# Altium schematic symbol library Common.SchLib: 13 symbols
Pins are listed as number, name and electrical type; pins without a type are passive.

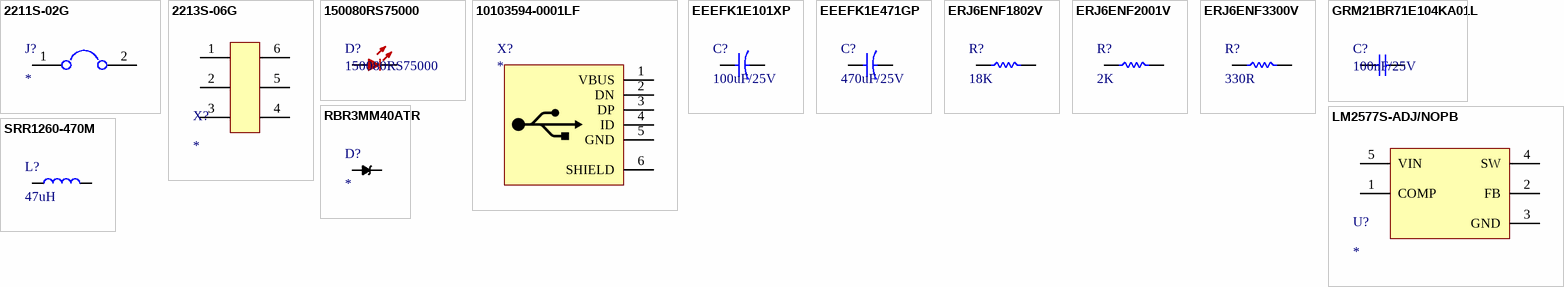
[diagram p0: symbols 2211S-02G to SRR1260-470M]

## 2211S-02G
designator J?
HEADER 2-PIN SINGLE ROW 2.54mm; Manufacturer: Multicomp; Manufacturer Part Number: 2211S-02G; Gender: Male; Number of Contacts: 2; Insulation Resistance: 1GR; Supplier 1: Farnell; Stock 1: 321402; Pricing 1: 50=0.0128, 500=0.0094, 1500=0.0081, 2500=0.0066, 5000=0.0064, 10000=0.0061, 30000=0.0059, 50000=0.0056 (EUR); Mount: Through Hole; Weight: 0.11lb; Contact Plating: Gold; Contact Material: Copper Alloy; Termination: Through Hole; Number of Rows: 1; Length: 0.2inch; Height: 0.47inch; Width: 0.12inch; REACH SVHC: No SVHC; Flammability Rating: UL94 V-0; ComponentLink1URL: http://www.farnell.com/datasheets/1518407.pdf?src-supplier=Element14; ComponentLink1Description: http://www.farnell.com/datasheets/1518407.pdf?src-supplier=Element14
footprint HEADER 2WAY with JUMPER 2.54,,
pins: 1, 2

## 2213S-06G
designator X?
HEADER 6-PIN DUAL ROW 2.54 mm; Manufacturer: Multicomp; Manufacturer Part Number: 2213S-06G; Number of Contacts: 6; Gender: Male; Insulation Resistance: 1GR; Supplier 1: Farnell; Stock 1: 152515; Pricing 1: 50=0.0349, 500=0.0257, 1500=0.0222, 2500=0.0181, 5000=0.0175, 10000=0.0168, 30000=0.0162, 50000=0.0155 (EUR); Mount: Through Hole; Weight: 0.11lb; Contact Plating: Gold; Contact Material: Copper Alloy; Number of Rows: 2; Termination: Through Hole; Length: 0.31inch; Height: 0.47inch; Width: 0.2inch; Flammability Rating: UL94 V-0; REACH SVHC: No SVHC; ComponentLink1URL: http://www.farnell.com/datasheets/1697530.pdf?src-supplier=Element14; ComponentLink1Description: http://www.farnell.com/datasheets/1697530.pdf?src-supplier=Element14; ComponentLink2URL: http://www.farnell.com/datasheets/1697530.pdf?src-supplier=Newark; ComponentLink2Description: http://www.farnell.com/datasheets/1697530.pdf?src-supplier=Newark
footprint HEADER 6WAY-2ROW
pins: 1, 2, 3, 4, 5, 6

## 150080RS75000
designator D?
WURTH ELEKTRONIK - 150080RS75000 - LED, 0805, ROJO, 150MCD, 625NM; Longitud de Onda Típ.: 625; Tensión Directa: 2; Corriente Directa If: 30; Intensidad Luminosa: 150; LED, Montaje: Montaje Superficial; Lente, Perfil: Rectangular; Ángulo de Visión: 140°; Encapsulado: Individual; Nivel de Sensibilidad a la Humedad (MSL): -<!--FANDB--><div class="features-and-benefits-container"><div class="features-and-benefits-description"><span class="features-benefits-value">The 150080RS75000 is a blue SMD chip LED Lamp with mono-colour water clear lens. This LED is suitable for backlight and miniaturized colour effects.</span></div><div class="features-and-benefits-list"><ul class="features-and-benefits-list-list"><li class="features-and-benefits-list-item">Low Energy Consumption</li><li class="features-and-benefits-list-item">High Reliability</li><li class="features-and-benefits-list-item">Low Current Requirement</li><li class="features-and-benefits-list-item">Fast Switching</li><li class="features-and-benefits-list-item">No UV/IR Radiation</li><li class="features-and-benefits-list-item">Smallest SMD Package with Exceptional Brightness</li><li class="features-and-benefits-list-item">Top View</li><li class="features-and-benefits-list-item">Wide Viewing Angle</li><li class="features-and-benefits-list-item">PBC High-usage</li><li class="features-and-benefits-list-item">Better Solderability</li><li class="features-and-benefits-list-item">Heat Dissipation</li></ul></div><div class="features-and-benefits-warnings"><span class="features-benefits-value">Washing varnish agent that is used during the production to clean the customer application might damage or change the characteristics of the LED body, pins or termination.</span></div><div class="features-and-benefits-applications"><ul class="features-and-benefits-value"><li class="features-and-benefits-list-item">Electrónica de Consumo</li><li class="features-and-benefits-list-item">Automoción</li><li class="features-and-benefits-list-item">Dispositivos Portátiles</li><li class="features-and-benefits-list-item">Industrial</li><li class="features-and-benefits-list-item">Iluminación LED</li></ul></div></div>; Supplier 1: Farnell; Manufacturer: WURTH ELEKTRONIK; Manufacturer Part Number: 150080RS75000; RoHS: YES; Stock 1: 1164; Pricing 1: 1=0,27, 50=0,238, 100=0,2, 500=0,182, 2000=0,162, 4000=0,146, 20000=0,129, 40000=0,116 (EUR); LED, Color: Rojo; Tamaño de Bulbo: -; ComponentLink1URL: http://www.farnell.com/datasheets/1911350.pdf; ComponentLink1Description: http://www.farnell.com/datasheets/1911350.pdf; Supplier Part Number 1: 2322077
footprint 150080RS75000
pins: 1 K, 2 A

## 10103594-0001LF
designator X?
MICRO USB 2.0 TYPE-B SMT; Manufacturer: AMPHENOL ICC (FCI); Manufacturer Part Number: 10103594-0001LF; USB Connector Type: Micro USB Type B; USB Standard: USB 2.0; Gender: Receptacle; No. of Positions: 5; Connector Mounting: Surface Mount; Supplier 1: Farnell; RoHS: YES; Stock 1: 75000; Pricing 1: 30000=0.332 (GBP); Orientation: Right Angle; Contact Material: Copper Alloy; ComponentLink1URL: http://www.farnell.com/datasheets/2366787.pdf; ComponentLink1Description: http://www.farnell.com/datasheets/2366787.pdf; ComponentLink2URL: http://www.farnell.com/cad/1913060.pdf; ComponentLink2Description: http://www.farnell.com/cad/1913060.pdf; ComponentLink3URL: http://www.farnell.com/datasheets/2562202.pdf; ComponentLink3Description: http://www.farnell.com/datasheets/2562202.pdf; ComponentLink4URL: http://www.farnell.com/datasheets/2366786.pdf; ComponentLink4Description: http://www.farnell.com/datasheets/2366786.pdf
footprint FCI 10103594-0001LF (MicroUSB Type B Connector)
pins: 1 VBUS, 2 DN, 3 DP, 4 ID, 5 GND, 6 SHIELD

## EEEFK1E101XP
designator C?, comment 100uF/25V
CAPACITOR ALU 100UF 25V 20%; Manufacturer: Panasonic; Manufacturer Part Number: EEE-FK1E101XP; Ripple Current: 280mA; Life (Hours): 2000Hour; ESR (Equivalent Series Resistance): 340mR; Polarity: Polar; Leakage Current: 25uA; Lead Diameter: 0.65mm; Supplier 1: Farnell; Stock 1: 0; Mount: Surface Mount,PCB; Case/Package: Radial; Number of Pins: 8; Contact Plating: Tin; Min Operating Temperature: -55°C; Max Operating Temperature: 105°C; Tolerance: 20%; Capacitance: 100uF; Voltage Rating (DC): 25V; Packaging: Tape and Reel; Voltage Rating: 25V; Ripple Current (AC): 280mA; Impedance: 340mR; Package Quantity: 1; Termination: SMD/SMT; Voltage: 25V; Diameter: 6.3mm; Length: 7.7mm; Height: 7.7mm; Lead Pitch: 1.8mm; Height - Seated (Max): 0.315inch; Width: 7.8mm; Radiation Hardening: No; REACH SVHC: No SVHC; Lead Free: Lead Free; ComponentLink1URL: http://uk.rs-online.com/webdocs/139e/0900766b8139e367.pdf?src-supplier=RSComponents; ComponentLink1Description: http://uk.rs-online.com/webdocs/139e/0900766b8139e367.pdf?src-supplier=RSComponents; ComponentLink2URL: http://industrial.panasonic.com/www-data/pdf/ABA0000/ABA0000CE120.pdf?src-supplier=Future+Electronics; ComponentLink2Description: http://industrial.panasonic.com/www-data/pdf/ABA0000/ABA0000CE120.pdf?src-supplier=Future+Electronics; ComponentLink3URL: http://www.farnell.com/datasheets/1676921.pdf?src-supplier=Element14; ComponentLink3Description: http://www.farnell.com/datasheets/1676921.pdf?src-supplier=Element14; ComponentLink4URL: http://www.farnell.com/datasheets/731857.pdf?src-supplier=Element14; ComponentLink4Description: http://www.farnell.com/datasheets/731857.pdf?src-supplier=Element14; ComponentLink5URL: http://www.farnell.com/datasheets/58258.pdf?src-supplier=Element14; ComponentLink5Description: http://www.farnell.com/datasheets/58258.pdf?src-supplier=Element14; ComponentLink6URL: http://www.farnell.com/datasheets/2002520.pdf?src-supplier=Farnell; ComponentLink6Description: http://www.farnell.com/datasheets/2002520.pdf?src-supplier=Farnell; ComponentLink7URL: https://industrial.panasonic.com/cdbs/www-data/pdf/RDE0000/DME0000COL90.pdf?src-supplier=Mouser; ComponentLink7Description: https://industrial.panasonic.com/cdbs/www-data/pdf/RDE0000/DME0000COL90.pdf?src-supplier=Mouser; ComponentLink8URL: http://industrial.panasonic.com/www-data/pdf/ABA0000/ABA0000CE120.pdf?src-supplier=Avnet; ComponentLink8Description: http://industrial.panasonic.com/www-data/pdf/ABA0000/ABA0000CE120.pdf?src-supplier=Avnet; ComponentLink9URL: https://industrial.panasonic.com/cdbs/www-data/pdf/RDE0000/DME0000COL90.pdf?src-supplier=Allied+Electronics; ComponentLink9Description: https://industrial.panasonic.com/cdbs/www-data/pdf/RDE0000/DME0000COL90.pdf?src-supplier=Allied+Electronics; Value: 100uF/25V
footprint CAP ALU PANASONIC D8 (Aluminum Electrolytic Capacitor, Body 6.60x6.60x7.70mm, IPC Low Density)
pins: 1, 2

## EEEFK1E471GP
designator C?, comment 470uF/25V
CAPACITOR ALU 470UF 25V 20%; Manufacturer: Panasonic; Manufacturer Part Number: EEE-FK1E471GP; Ripple Current: 850mA; Impedance: 80mR; Polarity: Polar; Life (Hours): 5000Hour; Leakage Current: 3uA; Dissipation Factor: 0.14%; Supplier 1: Farnell; Stock 1: 0; Mount: Surface Mount,PCB; Case/Package: Radial; Contact Plating: Tin; Min Operating Temperature: -55°C; Max Operating Temperature: 105°C; Capacitance: 470uF; Tolerance: 20%; Voltage Rating: 25V; Packaging: Tape and Reel; Package Quantity: 500; Ripple Current (AC): 850mA; Voltage Rating (DC): 25V; ESR (Equivalent Series Resistance): 80mR; Termination: SMD/SMT; Voltage: 25V; Diameter: 10mm; Length: 10.2mm; Height: 10.2mm; Height - Seated (Max): 0.413inch; Width: 12mm; Radiation Hardening: No; REACH SVHC: No SVHC; Lead Free: Lead Free; ComponentLink1URL: http://uk.rs-online.com/webdocs/0e4e/0900766b80e4e8b0.pdf?src-supplier=RSComponents; ComponentLink1Description: http://uk.rs-online.com/webdocs/0e4e/0900766b80e4e8b0.pdf?src-supplier=RSComponents; ComponentLink2URL: http://industrial.panasonic.com/www-data/pdf/ABA0000/ABA0000CE120.pdf?src-supplier=Avnet; ComponentLink2Description: http://industrial.panasonic.com/www-data/pdf/ABA0000/ABA0000CE120.pdf?src-supplier=Avnet; ComponentLink3URL: http://www.farnell.com/datasheets/2002520.pdf?src-supplier=Element14; ComponentLink3Description: http://www.farnell.com/datasheets/2002520.pdf?src-supplier=Element14; ComponentLink4URL: https://www.alliedelec.com/m/d/e9dd47fa10a053d1f2828ce8bc944f54.pdf?src-supplier=Allied+Electronics; ComponentLink4Description: https://www.alliedelec.com/m/d/e9dd47fa10a053d1f2828ce8bc944f54.pdf?src-supplier=Allied+Electronics; ComponentLink5URL: http://www.farnell.com/datasheets/2002520.pdf?src-supplier=Farnell; ComponentLink5Description: http://www.farnell.com/datasheets/2002520.pdf?src-supplier=Farnell; ComponentLink6URL: http://industrial.panasonic.com/www-data/pdf/ABA0000/ABA0000CE120.pdf?src-supplier=Avnet+Europe; ComponentLink6Description: http://industrial.panasonic.com/www-data/pdf/ABA0000/ABA0000CE120.pdf?src-supplier=Avnet+Europe; ComponentLink7URL: https://www.verical.com/server-webapp/html/getDatasheet?partID=191535&src-supplier=Verical; ComponentLink7Description: https://www.verical.com/server-webapp/html/getDatasheet?partID=191535&src-supplier=Verical; ComponentLink8URL: http://industrial.panasonic.com/www-data/pdf/ABA0000/ABA0000CE120.pdf?src-supplier=Future+Electronics; ComponentLink8Description: http://industrial.panasonic.com/www-data/pdf/ABA0000/ABA0000CE120.pdf?src-supplier=Future+Electronics; ComponentLink9URL: http://www.mouser.com/ds/2/315/ABA0000CE120-68386.pdf?src-supplier=Mouser; ComponentLink9Description: http://www.mouser.com/ds/2/315/ABA0000CE120-68386.pdf?src-supplier=Mouser; Value: 470uF/25V
footprint CAP ALU PANASONIC G (Aluminum Electrolytic Capacitor, Body 10.30x10.30x10.50mm, IPC Low Density)
pins: 1, 2

## ERJ6ENF1802V
designator R?, comment 18K
RESISTOR 0805 18K 1%; Manufacturer: Panasonic; Manufacturer Part Number: ERJ-6ENF1802V; Temperature Coefficient: 100ppm/°C; Power Rating: 125mW; Voltage Rating: 150V; Supplier 1: Farnell; Stock 1: 0; Mount: Surface Mount; Case/Package: 0805; Number of Pins: 2; Weight: 0.000194oz; Contact Plating: Tin; Case Code (Metric): 2012; Case Code (Imperial): 0805; Min Operating Temperature: -55°C; Max Operating Temperature: 155°C; Resistance: 18K; Tolerance: 1%; Composition: Thick Film; Packaging: Tape and Reel; Package Quantity: 1; Number of Terminations: 2; Termination: SMD/SMT; Military Standard: Not; Max Power Dissipation: 125mW; Voltage Rating (DC): 150V; Features: Automotive AEC-Q200; Length: 2mm; Height: 0.6mm; Width: 0.049inch; Depth: 1.25mm; Radiation Hardening: No; REACH SVHC: No SVHC; ComponentLink1URL: http://www.farnell.com/datasheets/1911175.pdf?src-supplier=Farnell; ComponentLink1Description: http://www.farnell.com/datasheets/1911175.pdf?src-supplier=Farnell; ComponentLink2URL: https://www.alliedelec.com/m/d/623f45ff1957d936ff56d46fd1c28cac.pdf?src-supplier=Allied+Electronics; ComponentLink2Description: https://www.alliedelec.com/m/d/623f45ff1957d936ff56d46fd1c28cac.pdf?src-supplier=Allied+Electronics; ComponentLink3URL: http://www.farnell.com/datasheets/426256.pdf?src-supplier=Element14; ComponentLink3Description: http://www.farnell.com/datasheets/426256.pdf?src-supplier=Element14; ComponentLink4URL: http://industrial.panasonic.com/www-data/pdf/AOA0000/AOA0000CE2.pdf?src-supplier=Avnet; ComponentLink4Description: http://industrial.panasonic.com/www-data/pdf/AOA0000/AOA0000CE2.pdf?src-supplier=Avnet; ComponentLink5URL: http://industrial.panasonic.com/www-data/pdf/AOA0000/AOA0000CE2.pdf?src-supplier=Avnet+Asia; ComponentLink5Description: http://industrial.panasonic.com/www-data/pdf/AOA0000/AOA0000CE2.pdf?src-supplier=Avnet+Asia; ComponentLink6URL: http://www.farnell.com/datasheets/1678782.pdf?src-supplier=Element14; ComponentLink6Description: http://www.farnell.com/datasheets/1678782.pdf?src-supplier=Element14; ComponentLink7URL: http://www.mouser.com/ds/2/315/AOA0000C86-911473.pdf?src-supplier=Mouser; ComponentLink7Description: http://www.mouser.com/ds/2/315/AOA0000C86-911473.pdf?src-supplier=Mouser
footprint RES 0805/2012 (Chip Resistor, 2-Leads, Body 2.00x1.25mm, IPC Medium Density)
pins: 1, 2

## ERJ6ENF2001V
designator R?, comment 2K
RESISTOR 0805 2K 1%; Manufacturer: Panasonic; Manufacturer Part Number: ERJ-6ENF2001V; Temperature Coefficient: 100ppm/°C; Power Rating: 125mW; Voltage Rating: 150V; Supplier 1: Farnell; Stock 1: 0; Mount: Surface Mount; Case/Package: 0805; Weight: 0.000194oz; Contact Plating: Tin; Case Code (Metric): 2012; Case Code (Imperial): 0805; Min Operating Temperature: -55°C; Max Operating Temperature: 155°C; Resistance: 2K; Tolerance: 1%; Composition: Thick Film; Packaging: Tape and Reel; Package Quantity: 1; Number of Terminations: 2; Termination: SMD/SMT; Military Standard: Not; Max Power Dissipation: 125mW; Voltage Rating (DC): 150V; Features: Automotive AEC-Q200; Length: 2mm; Height: 0.6mm; Width: 0.049inch; Depth: 1.25mm; Radiation Hardening: No; REACH SVHC: No SVHC; Lead Free: Lead Free; ComponentLink1URL: http://industrial.panasonic.com/www-data/pdf/AOA0000/AOA0000CE2.pdf?src-supplier=Avnet; ComponentLink1Description: http://industrial.panasonic.com/www-data/pdf/AOA0000/AOA0000CE2.pdf?src-supplier=Avnet; ComponentLink2URL: http://www.farnell.com/datasheets/1678782.pdf?src-supplier=Element14; ComponentLink2Description: http://www.farnell.com/datasheets/1678782.pdf?src-supplier=Element14; ComponentLink3URL: http://www.mouser.com/ds/2/315/AOA0000C86-911473.pdf?src-supplier=Mouser; ComponentLink3Description: http://www.mouser.com/ds/2/315/AOA0000C86-911473.pdf?src-supplier=Mouser; ComponentLink4URL: http://www.jameco.com/Jameco/Products/ProdDS/1989121.pdf?src-supplier=Jameco; ComponentLink4Description: http://www.jameco.com/Jameco/Products/ProdDS/1989121.pdf?src-supplier=Jameco; ComponentLink5URL: https://www.alliedelec.com/m/d/623f45ff1957d936ff56d46fd1c28cac.pdf?src-supplier=Allied+Electronics; ComponentLink5Description: https://www.alliedelec.com/m/d/623f45ff1957d936ff56d46fd1c28cac.pdf?src-supplier=Allied+Electronics; ComponentLink6URL: http://industrial.panasonic.com/www-data/pdf/AOA0000/AOA0000CE2.pdf?src-supplier=Avnet+Asia; ComponentLink6Description: http://industrial.panasonic.com/www-data/pdf/AOA0000/AOA0000CE2.pdf?src-supplier=Avnet+Asia; ComponentLink7URL: http://www.farnell.com/datasheets/426256.pdf?src-supplier=Element14; ComponentLink7Description: http://www.farnell.com/datasheets/426256.pdf?src-supplier=Element14; ComponentLink8URL: http://industrial.panasonic.com/www-data/pdf/AOA0000/AOA0000CE2.pdf?src-supplier=Avnet+Europe; ComponentLink8Description: http://industrial.panasonic.com/www-data/pdf/AOA0000/AOA0000CE2.pdf?src-supplier=Avnet+Europe; ComponentLink9URL: http://www.farnell.com/datasheets/1911175.pdf?src-supplier=Farnell; ComponentLink9Description: http://www.farnell.com/datasheets/1911175.pdf?src-supplier=Farnell
footprint RES 0805/2012 (Chip Resistor, 2-Leads, Body 2.00x1.25mm, IPC Medium Density)
pins: 1, 2

## ERJ6ENF3300V
designator R?, comment 330R
RESISTOR 0805 330R 1%; Manufacturer: Panasonic; Manufacturer Part Number: ERJ-6ENF3300V; Temperature Coefficient: 100ppm/°C; Voltage Rating: 150V; Power Rating: 125mW; Supplier 1: Farnell; Stock 1: 0; Mount: Surface Mount; Case/Package: 0805; Number of Pins: 2; Contact Plating: Tin; Case Code (Imperial): 0805; Case Code (Metric): 2012; Min Operating Temperature: -55°C; Max Operating Temperature: 155°C; Resistance: 330R; Tolerance: 1%; Composition: Thick Film; Packaging: Tape and Reel; Package Quantity: 1; Number of Terminations: 2; Military Standard: Not; Termination: SMD/SMT; Max Power Dissipation: 125mW; Features: Automotive AEC-Q200; Length: 2mm; Height: 0.6mm; Width: 1.2mm; Depth: 1.25mm; Radiation Hardening: No; REACH SVHC: No SVHC; ComponentLink1URL: http://www.mouser.com/ds/2/315/AOA0000C283-1093288.pdf?src-supplier=Mouser; ComponentLink1Description: http://www.mouser.com/ds/2/315/AOA0000C283-1093288.pdf?src-supplier=Mouser; ComponentLink2URL: http://industrial.panasonic.com/www-data/pdf/AOA0000/AOA0000CE2.pdf?src-supplier=Avnet+Europe; ComponentLink2Description: http://industrial.panasonic.com/www-data/pdf/AOA0000/AOA0000CE2.pdf?src-supplier=Avnet+Europe; ComponentLink3URL: http://www.farnell.com/datasheets/1678782.pdf?src-supplier=Element14; ComponentLink3Description: http://www.farnell.com/datasheets/1678782.pdf?src-supplier=Element14; ComponentLink4URL: http://www.alliedelec.com/m/d/623f45ff1957d936ff56d46fd1c28cac.pdf?src-supplier=Allied+Electronics; ComponentLink4Description: http://www.alliedelec.com/m/d/623f45ff1957d936ff56d46fd1c28cac.pdf?src-supplier=Allied+Electronics
footprint RES 0805/2012 (Chip Resistor, 2-Leads, Body 2.00x1.25mm, IPC Medium Density)
pins: 1, 2

## GRM21BR71E104KA01L
designator C?, comment 100nF/25V
CAPACITOR 0805 100nF 25V X7R 10%; Manufacturer: Murata; Manufacturer Part Number: GRM21BR71E104KA01L; Supplier 1: Farnell; Stock 1: 0; Mount: Surface Mount; Case/Package: 0805; Number of Pins: 2; Weight: 0.000194oz; Case Code (Imperial): 0805; Case Code (Metric): 2012; Min Operating Temperature: -55°C; Max Operating Temperature: 125°C; Capacitance: 100nF; Tolerance: 10%; Dielectric: X7R; Voltage Rating: 25V; Voltage Rating (DC): 25V; Packaging: Tape and Reel; Package Quantity: 1; Termination: SMD/SMT; Voltage: 25V; Length: 2mm; Height: 1.25mm; Width: 1.25mm; Thickness: 0.053inch; Depth: 1.25mm; Radiation Hardening: No; REACH SVHC: No SVHC; Lead Free: Lead Free; ComponentLink1URL: http://psearch.murata.com/capacitor/product/GRM21BR71E104KA01%23.pdf?src-supplier=Future+Electronics; ComponentLink1Description: http://psearch.murata.com/capacitor/product/GRM21BR71E104KA01%23.pdf?src-supplier=Future+Electronics; ComponentLink2URL: https://search.murata.co.jp/Ceramy/image/img/A01X/G101/ENG/GRM21BR71E104KA01-01.pdf?src-supplier=Digi-Key; ComponentLink2Description: https://search.murata.co.jp/Ceramy/image/img/A01X/G101/ENG/GRM21BR71E104KA01-01.pdf?src-supplier=Digi-Key; ComponentLink3URL: http://www.farnell.com/datasheets/608985.pdf?src-supplier=Element14; ComponentLink3Description: http://www.farnell.com/datasheets/608985.pdf?src-supplier=Element14; ComponentLink4URL: http://components.arrow.com/part/dataview/5434837S9850839N2606?src-supplier=Arrow; ComponentLink4Description: http://components.arrow.com/part/dataview/5434837S9850839N2606?src-supplier=Arrow; ComponentLink5URL: http://uk.rs-online.com/webdocs/1423/0900766b81423cc8.pdf?src-supplier=RSComponents; ComponentLink5Description: http://uk.rs-online.com/webdocs/1423/0900766b81423cc8.pdf?src-supplier=RSComponents; Value: 100nF/25V
footprint CAP 0805/2012 (Chip Capacitor, 2-Leads, Body 2.00x1.20mm, IPC Medium Density)
pins: 1, 2

## LM2577S-ADJ/NOPB
designator U?
STEP-UP VOLTAGE REGULATOR; Manufacturer: TI National Semiconductor; Manufacturer Part Number: LM2577S-ADJ/NOPB; Max Input Voltage: 40V; Max Output Current: 3A; Output Voltage: 12.4V; Number of Outputs: 1; Min Input Voltage: 3.5V; Switching Frequency: 56kHz; Efficiency: 80%; Quiescent Current: 10mA; Topology: Boost,Flyback; Output Type: Adjustable; Min Output Voltage: 1.23V; Max Output Voltage: 15V; Supplier 1: Farnell; Stock 1: 0; Pricing 1: 1=6.94, 10=5.71, 25=5.31, 50=5.03, 100=4.73, 250=4.52, 500=3.61 (EUR); Mount: Surface Mount; Case/Package: TO-263; Number of Pins: 5; Weight: 0.056128oz; Contact Plating: Tin,Matte; Min Operating Temperature: -40°C; Max Operating Temperature: 125°C; Operating Supply Voltage: 40V; Min Supply Voltage: 3.5V; Output Current: 3A; Packaging: Rail/Tube; Length: 10.41mm; Height: 4.65mm; Width: 10.16mm; Radiation Hardening: No; Lead Free: Contains Lead; REACH SVHC: No SVHC; ComponentLink1URL: http://www.farnell.com/datasheets/1997655.pdf?src-supplier=Element14; ComponentLink1Description: http://www.farnell.com/datasheets/1997655.pdf?src-supplier=Element14; ComponentLink2URL: https://media.digikey.com/pdf/Data%20Sheets/Texas%20Instruments%20PDFs/LM1577,2577_Rev2005.pdf?src-supplier=Digi-Key; ComponentLink2Description: https://media.digikey.com/pdf/Data%20Sheets/Texas%20Instruments%20PDFs/LM1577,2577_Rev2005.pdf?src-supplier=Digi-Key; ComponentLink3URL: https://www.distrelec.biz/Web/Downloads/t_/en/jgLM2577_Datasheet_EN.pdf?mime=application%2Fpdf&src-supplier=Distrelec; ComponentLink3Description: https://www.distrelec.biz/Web/Downloads/t_/en/jgLM2577_Datasheet_EN.pdf?mime=application%2Fpdf&src-supplier=Distrelec
footprint TO-263-5 (D-PAK/TO-263-5; 5 Leads; Body 14.4 (inc. leads) x 10.4 mm (LxW max))
pins: 1 COMP, 2 FB, 3 GND, 4 SW, 5 VIN

## RBR3MM40ATR
designator D?
DIODE SCHOTTKY 40V 3A PMDU; Manufacturer: Rohm; Manufacturer Part Number: RBR3MM40ATR; Supplier 1: Farnell; Stock 1: 0; Pricing 1: 150=0.153, 250=0.15, 500=0.127, 1000=0.105, 5000=0.0929 (EUR); Mount: Surface Mount; Packaging: Tape and Reel; Average Rectified Current: 3A; Max Reverse Voltage (DC): 40V; ComponentLink1URL: http://www.mouser.com/ds/2/348/rbr3mm40a-e-1017224.pdf?src-supplier=Mouser; ComponentLink1Description: http://www.mouser.com/ds/2/348/rbr3mm40a-e-1017224.pdf?src-supplier=Mouser; ComponentLink2URL: http://www.rohm.com/web/global/datasheet/RBR3MM40A/rbr3mm40a-e?src-supplier=Digi-Key; ComponentLink2Description: http://www.rohm.com/web/global/datasheet/RBR3MM40A/rbr3mm40a-e?src-supplier=Digi-Key; ComponentLink3URL: http://rohmfs.rohm.com/en/techdata_basic/diode/taping/Taping_PMDU(M)_TR-e.pdf?src-supplier=Digi-Key; ComponentLink3Description: http://rohmfs.rohm.com/en/techdata_basic/diode/taping/Taping_PMDU(M)_TR-e.pdf?src-supplier=Digi-Key
footprint SOD-123FL (SOD, 2-Leads, Body 1.55x3.70mm, IPC Medium Density)
pins: 1 A, 2 K

## SRR1260-470M
designator L?, comment 47uH
INDUCTOR 47uH 2.5A; Manufacturer: Bourns; Manufacturer Part Number: SRR1260-470M; Core Material: Ferrite; Material: Steel; Tolerance: 20%; DC Resistance (DCR): 86mR; Max DC Current: 2.6A; Q Factor: 22; Self Resonant Frequency: 7.63MHz; Shielding: Shielded; Test Frequency: 100kHz; Supplier 1: Farnell; Stock 1: 0; Mount: Surface Mount; Case/Package: 1260; Min Operating Temperature: -40°C; Max Operating Temperature: 125°C; Inductance: 47uH; Termination: SMD/SMT; Inductance Tolerance: 20%; Packaging: Tape and Reel; Package Quantity: 600; Current Rating: 2.6A; Saturation Current: 2.5A; Frequency: 7.63MHz; Resistance: 86MR; Composition: Wirewound; RMS Current (Irms): 2.6A; DC Current: 2.6A; Military Standard: Not; Length: 12.5mm; Height: 6mm; Width: 12.5mm; Height - Seated (Max): 0.256inch; Depth: 12.8mm; Radiation Hardening: No; REACH SVHC: No SVHC; ComponentLink1URL: https://www.bourns.com/docs/Product-Datasheets/SRR1260.pdf?src-supplier=Digi-Key; ComponentLink1Description: https://www.bourns.com/docs/Product-Datasheets/SRR1260.pdf?src-supplier=Digi-Key; ComponentLink2URL: http://www.bourns.com/docs/Product-Datasheets/SRR1260.pdf?src-supplier=Digi-Key; ComponentLink2Description: http://www.bourns.com/docs/Product-Datasheets/SRR1260.pdf?src-supplier=Digi-Key; ComponentLink3URL: http://www.bourns.com/pdfs/SRR1260.pdf?src-supplier=Avnet; ComponentLink3Description: http://www.bourns.com/pdfs/SRR1260.pdf?src-supplier=Avnet; ComponentLink4URL: https://www.alliedelec.com/m/d/845565468e1e76a1db638ca94afd232b.pdf?src-supplier=Allied+Electronics; ComponentLink4Description: https://www.alliedelec.com/m/d/845565468e1e76a1db638ca94afd232b.pdf?src-supplier=Allied+Electronics; ComponentLink5URL: http://uk.rs-online.com/webdocs/0def/0900766b80defded.pdf?src-supplier=RSComponents; ComponentLink5Description: http://uk.rs-online.com/webdocs/0def/0900766b80defded.pdf?src-supplier=RSComponents; ComponentLink6URL: http://www.farnell.com/datasheets/1430852.pdf?src-supplier=Element14; ComponentLink6Description: http://www.farnell.com/datasheets/1430852.pdf?src-supplier=Element14; ComponentLink7URL: http://www.farnell.com/datasheets/1430852.pdf?src-supplier=Farnell; ComponentLink7Description: http://www.farnell.com/datasheets/1430852.pdf?src-supplier=Farnell; ComponentLink8URL: http://www.bourns.com/pdfs/SRR1260.pdf?src-supplier=Avnet+Europe; ComponentLink8Description: http://www.bourns.com/pdfs/SRR1260.pdf?src-supplier=Avnet+Europe; ComponentLink9URL: http://www.farnell.com/datasheets/1914016.pdf?src-supplier=Element14; ComponentLink9Description: http://www.farnell.com/datasheets/1914016.pdf?src-supplier=Element14; ComponentLink10URL: http://www.produktinfo.conrad.com/datenblaetter/1000000-1099999/001056651-da-01-en-MAG_ABGE_L_IND_SRR1260_470M_47UH_2_6A.pdf?src-supplier=Conrad; ComponentLink10Description: http://www.produktinfo.conrad.com/datenblaetter/1000000-1099999/001056651-da-01-en-MAG_ABGE_L_IND_SRR1260_470M_47UH_2_6A.pdf?src-supplier=Conrad
footprint INDUCTOR 1260 (SMD INDUCTOR 12.6X12.6X6mm)
pins: 1, 2